# Altium footprint library ISE_MCS_SDM_E1_20MAY.PcbLib: 27 footprints (part 1 of 2)
Each footprint in its own frame and in the unit in brackets; x right, y up, seen from the top. Pads: shape width x height; smd on the part's side, far side on the other; paste and mask are expansions set on the pad; w line width, h text height; cw(c..) or ccw(c..) is an arc to the next point about the centre after c.
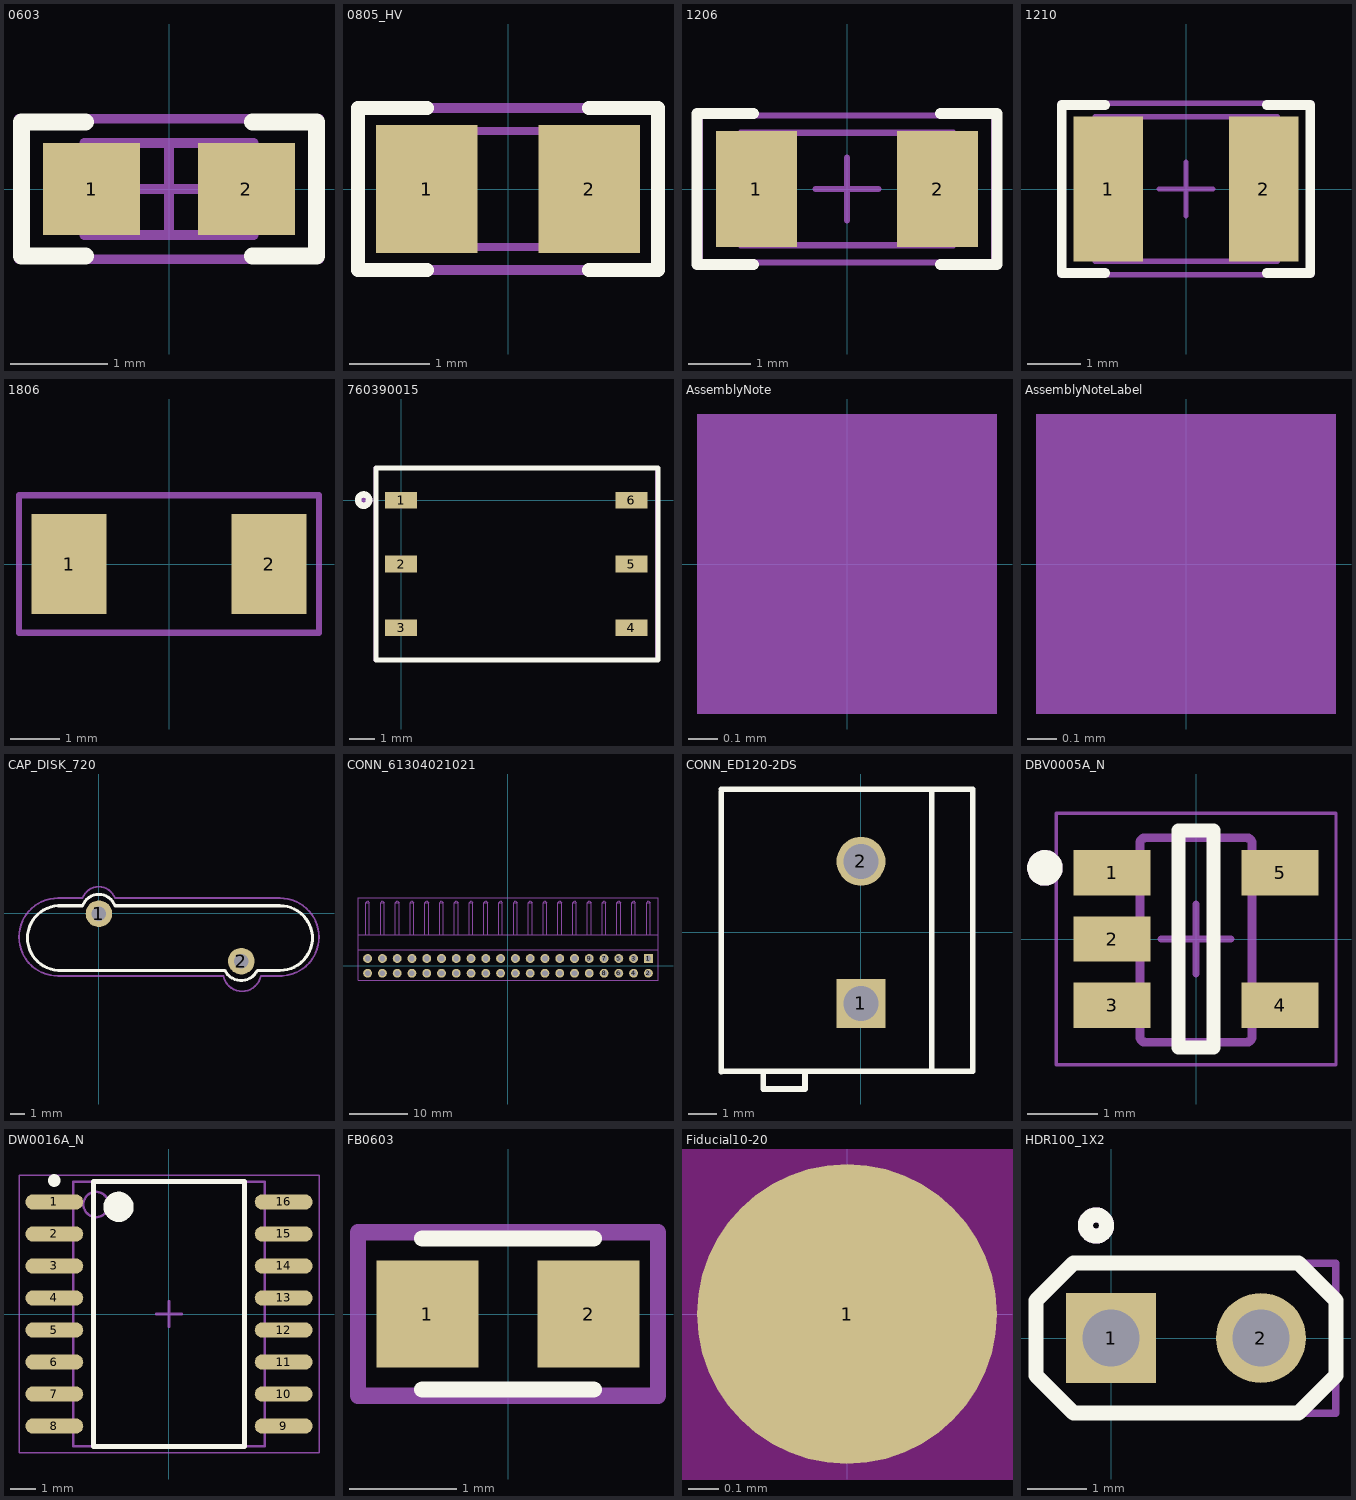
[diagram p0: the footprints below, top view; thin cyan lines are the x and y axes]

## 0603 [mm] "0603 from SM-752 data"
height 0.85
pads (2):
  rect 1x0.95 smd: 1(-0.8,0) 2(0.8,0)
Top Overlay:
  lines w0.178: -0.864,-0.691 -1.524,-0.691 -1.524,0.693 -0.864,0.693 ; 0.864,-0.691 1.524,-0.691 1.524,0.693 0.864,0.693
Mechanical 5:
  lines w0.1: -1.55,-0.725 -1.55,0.725 1.55,0.725 1.55,-0.725 -1.55,-0.725
  text ".Designator" at -1.397,-0.381 h0.76
Mechanical 13:
  lines w0.1: -0.55,-0.475 -0.55,0.475 ; 0.55,-0.475 0.55,0.475 ; -0.875,-0.475 0.875,-0.475 0.875,0.475 -0.875,0.475 -0.875,-0.475
Mechanical 15:
  lines w0.1: -0.475,0 0.475,0 ; 0,-0.475 0,0.475 ; -1.55,-0.725 1.55,-0.725 1.55,0.725 -1.55,0.725 -1.55,-0.725
3D body: height 0.85, standoff 0, extent -0.874,-0.474 -0.551,0.474
3D body: height 0.85, standoff 0, extent -0.549,-0.474 0.549,0.474
3D body: height 0.85, standoff 0, extent 0.551,-0.474 0.874,0.474

## 0805_HV [mil] "0805 with 30mil clearance between pads"
height 43.31
pads (2):
  rect 50x63 smd: 1(-40,0) 2(40,0)
Top Overlay:
  lines w7: -40,-40 -74,-40 -74,0 -74,40 -40,40 ; 40,-40 74,-40 74,0 74,40 40,40
Mechanical 5:
  lines w5: -74,-40 -74,40 74,40 74,-40 -74,-40
  text ".Designator" at -64,-17 h35
Mechanical 13:
  lines w3.94: -25.59,-28.54 -25.59,28.54 ; 25.59,-28.54 25.59,28.54 ; -43.31,-28.54 43.31,-28.54 43.31,28.54 -43.31,28.54 -43.31,-28.54
3D body: height 43.31, standoff 0, extent -43.29,-28.52 -25.61,28.52
3D body: height 43.31, standoff 0, extent -25.57,-28.52 25.57,28.52
3D body: height 43.31, standoff 0, extent 25.61,-28.52 43.29,28.52

## 1206 [mm] "1206 from SM-752 data"
height 1.35
pads (2):
  rect 1.3x1.85 smd: 1(-1.45,0) 2(1.45,0)
Top Overlay:
  lines w0.178: -1.5,-1.21 -2.4,-1.21 -2.4,1.21 -1.5,1.21 ; 1.5,-1.21 2.4,-1.21 2.4,1.21 1.5,1.21
Mechanical 5:
  lines w0.1: -1.7,-0.9 1.7,-0.9 1.7,0.9 -1.7,0.9 -1.7,-0.9
  text ".Designator" at -1.475,-0.4 h0.81
Mechanical 13:
  lines w0.1: -1.2,-0.9 -1.2,0.9 ; 1.2,-0.9 1.2,0.9 ; -1.7,-0.9 1.7,-0.9 1.7,0.9 -1.7,0.9 -1.7,-0.9
Mechanical 15:
  lines w0.1: -0.5,0 0.5,0 ; 0,-0.5 0,0.5 ; -2.35,-1.175 2.35,-1.175 2.35,1.175 -2.35,1.175 -2.35,-1.175
3D body: height 1.35, standoff 0, extent -1.699,-0.899 -1.201,0.899
3D body: height 1.35, standoff 0, extent -1.199,-0.899 1.199,0.899
3D body: height 1.35, standoff 0, extent 1.201,-0.899 1.699,0.899

## 1210 [mm] "1210 from SM-752 data"
height 1.35
pads (2):
  rect 1.3x2.7 smd: 1(-1.45,0) 2(1.45,0)
Top Overlay:
  lines w0.178: -1.511,-1.568 -2.316,-1.568 -2.316,1.568 -1.511,1.568 ; 1.511,-1.568 2.316,-1.568 2.316,1.568 1.511,1.568
Mechanical 5:
  lines w0.1: -1.7,-1.35 1.7,-1.35 1.7,1.35 -1.7,1.35 -1.7,-1.35
  text ".Designator" at -1.4,-0.375 h0.76
Mechanical 13:
  lines w0.1: -1.2,-1.35 -1.2,1.35 ; 1.2,-1.35 1.2,1.35 ; -1.7,-1.35 -1.7,1.35 1.7,1.35 1.7,-1.35 -1.7,-1.35
Mechanical 15:
  lines w0.1: -0.5,0 0.5,0 ; 0,-0.5 0,0.5 ; -2.35,-1.6 -2.35,1.6 2.35,1.6 2.35,-1.6 -2.35,-1.6
3D body: height 1.35, standoff 0, extent -1.699,-1.349 -1.201,1.349
3D body: height 1.35, standoff 0, extent -1.199,-1.349 1.199,1.349
3D body: height 1.35, standoff 0, extent 1.201,-1.349 1.699,1.349

## 1806 [mil]
pads (2):
  rect 60x80 smd mask+2: 1(-80,0) 2(80,0)
Mechanical 5:
  lines w5: -120,-55 120,-55 120,55 -120,55 -120,-55
  text ".Designator" at -73,-20 h40

## 760390015 [mm]
pads (6):
  rect 1.27x0.66 smd: 1(0,0) 2(0,-2.54) 3(0,-5.08) 4(9.14,-5.08) 5(9.14,-2.54) 6(9.14,0)
Top Overlay:
  circle w0.254: c-1.494,0 r0.224
  lines w0.2: -1,-6.35 10.2,-6.35 10.2,1.27 -1,1.27 -1,-6.35
Mechanical 5:
  circle w0.254: c-1.397,0 r0.127
  lines w0.152: -1.016,-6.35 -1.016,1.27 10.16,1.27 10.16,-6.35 -1.016,-6.35
  text ".designator" at 1.397,-3.429 h1.52
3D body: height 4.2, standoff 0.2, extent -1,-6.4 10.2,1.2

## AssemblyNote [mil] "Assembly Note"
Mechanical 5:
  rectangle: -20,-20 20,20
  text ".Comment" at 45,-20 h40
  text ".Designator" at -174.37,-23.77 h40

## AssemblyNoteLabel [mil] "Assembly Note for PCB Labels"
Mechanical 5:
  rectangle: -20,-20 20,20
  text "Install label in silkscreened box after final wash.  Text shall be 8 pt font.  Text shall be per the Label Table in the PDF schematic." at 45,-20 h40
  text ".Designator" at -189.37,-24.77 h40

## CAP_DISK_720 [mil]
pads (2):
  round 70 hole 38: 1(0,-1) 2(375,-126)
Top Overlay:
  lines w8: -98,-150 332,-150 ccw(c374.5,-130) 417,-150 477,-150 ccw(c477,-65) 477,20 42,20 ; -98,20 -43,20 ; -97.95,-150 cw(c-103,-65) -97.95,20 ; -43.01,19.97 cw(c-0.5,5) 42.01,19.97
Mechanical 5:
  lines w5: -43.01,39.97 cw(c-0.5,25) 42.01,39.97 ; -43,40 -108,40 ccw(c-108,-62.5) -108,-165 327,-165 ; 42,40 477,40 cw(c477,-62.5) 477,-165 ; 327.72,-164.85 ccw(c377,-155) 426.28,-164.85 ; 427,-165 482,-165
  text ".Designator" at 150,-377 h60

## CONN_61304021021 [mil]
pads (40):
  rect 60x60 hole 38: 1(952,50)
  round 60 hole 38: 2(952,-50) 3(852,50) 4(852,-50) 5(752,50) 6(752,-50) 7(652,50) 8(652,-50) 9(552,50) 10(552,-50) 11(452,50) 12(452,-50) 13(352,50) 14(352,-50) 15(252,50) 16(252,-50) 17(152,50) 18(152,-50) 19(52,50) 20(52,-50) 21(-48,50) 22(-48,-50) 23(-148,50) 24(-148,-50) 25(-248,50) 26(-248,-50) 27(-348,50) 28(-348,-50) 29(-448,50) 30(-448,-50) 31(-548,50) 32(-548,-50) 33(-648,50) 34(-648,-50) 35(-748,50) 36(-748,-50) 37(-848,50) 38(-848,-50) 39(-948,50) 40(-948,-50)
Mechanical 5:
  lines w5: -1013,109.5 1017,109.5 ; -1013,209.5 1017,209.5 ; -1013,-95.5 1017,-95.5 1017,459.5 -1013,459.5 -1013,-95.5
  text ".Designator" at -73,-20 h40
Mechanical 16:
  lines w1: -960.5,210 -960.5,427.5 ; -935.5,210 -935.5,427.5 ; -860.5,210 -860.5,427.5 ; -835.5,210 -835.5,427.5 ; -760.5,210 -760.5,427.5 ; -735.5,210 -735.5,427.5 ; -660.5,210 -660.5,427.5 ; -635.5,210 -635.5,427.5 ; -560.5,210 -560.5,427.5 ; -535.5,210 -535.5,427.5 ; -460.5,210 -460.5,427.5 ; -435.5,210 -435.5,427.5 ; -360.5,210 -360.5,427.5 ; -335.5,210 -335.5,427.5 ; -260.5,210 -260.5,427.5 ; -235.5,210 -235.5,427.5 ; -160.5,210 -160.5,427.5 ; -135.5,210 -135.5,427.5 ; -60.5,210 -60.5,427.5 ; -35.5,210 -35.5,427.5 ; 39.5,210 39.5,427.5 ; 64.5,210 64.5,427.5 ; 139.5,210 139.5,427.5 ; 164.5,210 164.5,427.5 ; 239.5,210 239.5,427.5 ; 264.5,210 264.5,427.5 ; 339.5,210 339.5,427.5 ; 364.5,210 364.5,427.5 ; 439.5,210 439.5,427.5 ; 464.5,210 464.5,427.5 ; 539.5,210 539.5,427.5 ; 564.5,210 564.5,427.5 ; 639.5,210 639.5,427.5 ; 664.5,210 664.5,427.5 ; 739.5,210 739.5,427.5 ; 764.5,210 764.5,427.5 ; 839.5,210 839.5,427.5 ; 864.5,210 864.5,427.5 ; 939.5,210 939.5,427.5 ; 964.5,210 964.5,427.5 ; -960.5,427.5 -948,440 -935.5,427.5 ; -960.5,427.5 -935.5,427.5 ; -860.5,427.5 -835.5,427.5 ; -860.5,427.5 -848,440 -835.5,427.5 ; -760.5,427.5 -748,440 -735.5,427.5 ; -760.5,427.5 -735.5,427.5 ; -660.5,427.5 -648,440 -635.5,427.5 ; -660.5,427.5 -635.5,427.5 ; -560.5,427.5 -548,440 -535.5,427.5 ; -560.5,427.5 -535.5,427.5 ; -460.5,427.5 -435.5,427.5 ; -460.5,427.5 -448,440 -435.5,427.5 ; -360.5,427.5 -348,440 -335.5,427.5 ; -360.5,427.5 -335.5,427.5 ; -260.5,427.5 -248,440 -235.5,427.5 ; -260.5,427.5 -235.5,427.5 ; -160.5,427.5 -148,440 -135.5,427.5 ; -160.5,427.5 -135.5,427.5 ; -60.5,427.5 -48,440 -35.5,427.5 ; -60.5,427.5 -35.5,427.5 ; 39.5,427.5 64.5,427.5 ; 39.5,427.5 52,440 64.5,427.5 ; 139.5,427.5 164.5,427.5 ; 139.5,427.5 152,440 164.5,427.5 ; 239.5,427.5 264.5,427.5 ; 239.5,427.5 252,440 264.5,427.5 ; 339.5,427.5 352,440 364.5,427.5 ; 339.5,427.5 364.5,427.5 ; 439.5,427.5 452,440 464.5,427.5 ; 439.5,427.5 464.5,427.5 ; 539.5,427.5 552,440 564.5,427.5 ; 539.5,427.5 564.5,427.5 ; 639.5,427.5 652,440 664.5,427.5 ; 639.5,427.5 664.5,427.5 ; 739.5,427.5 752,440 764.5,427.5 ; 739.5,427.5 764.5,427.5 ; 839.5,427.5 852,440 864.5,427.5 ; 839.5,427.5 864.5,427.5 ; 939.5,427.5 952,440 964.5,427.5 ; 939.5,427.5 964.5,427.5

## CONN_ED120-2DS [mm] "ONSHORE"
height 13
pads (2):
  rect 1.75x1.75 hole 1.25: 1(0,-2.54)
  round 1.75 hole 1.25: 2(0,2.54)
Top Overlay:
  lines w0.2: -5,-4.985 -5,5.015 ; -5,-4.96 4,-4.96 ; -5,5.115 4,5.115 4,-4.885 ; -3.5,-4.96 -3.5,-5.6 -2,-5.6 -2,-4.96 ; 2.525,-4.95 2.525,5.05
Mechanical 5:
  lines w0.1: -5,-4.96 4,-4.96 ; -5,-4.885 -5,5.115 4,5.115 4,-4.885 ; -3.5,-4.96 -3.5,-5.6 -2,-5.6 -2,-4.96 ; 2.525,-4.875 2.525,5.125
  text ".Designator" at -2.75,-0.4 h1.02
3D body: height 13, standoff 0, extent -5,-4.985 4,5.115
3D body: height 13.1, standoff -2.5, extent -0.496,-3.039 0.5,-2.041
3D body: height 13.1, standoff -2.5, extent -0.496,2.041 0.5,3.039
3D body: height 5.7, standoff 4.3, extent -0.85,1.846 4.15,3.24
3D body: height 5.7, standoff 4.3, extent -0.875,-3.204 4.125,-1.81
3D body: height 13, standoff 0, extent -3.5,-5.6 -2,-4.925

## DBV0005A_N [mm] "SOT23, 5-Leads, Body 2.9x1.6mm, Pitch 0.95mm, Lead Span 2.8mm, IPC Medium Density"
height 1.45
pads (5):
  rect 1.1x0.65 smd: 1(-1.2,0.95) 2(-1.2,0) 3(-1.2,-0.95) 4(1.2,-0.95) 5(1.2,0.95)
Top Overlay:
  circle w0.254: c-2.159,1.016 r0.127
  lines w0.2: -0.25,-1.55 0.25,-1.55 0.25,1.55 -0.25,1.55 -0.25,-1.55
Mechanical 5:
  circle w0.254: c-2.159,1.016 r0.127
  lines w0.127: -0.801,1.371 cw(c-0.725,1.37) -0.725,1.446 ; -0.801,1.37 -0.801,-1.399 -0.801,-1.4 ccw(c-0.725,-1.399) -0.725,-1.475 ; -0.801,1.37 -0.801,1.371 ; -0.725,-1.475 -0.725,-1.475 ; -0.725,-1.475 0.723,-1.475 0.724,-1.475 ccw(c0.723,-1.399) 0.799,-1.4 0.799,-1.399 0.799,1.37 ; -0.725,1.446 0.723,1.446 0.724,1.446 cw(c0.723,1.37) 0.799,1.371 ; -0.725,1.446 -0.725,1.446 ; 0.799,1.37 0.799,1.371 ; -1.423,-1.167 -1.199,-1.167 -1.105,-1.167 -1.088,-1.167 -0.835,-1.167 -0.801,-1.167 -0.801,-0.767 -0.835,-0.767 -1.088,-0.767 -1.105,-0.767 -1.199,-0.767 -1.423,-0.767 -1.423,-1.167 ; -1.423,-0.215 -1.199,-0.215 -1.105,-0.215 -1.088,-0.215 -0.835,-0.215 -0.801,-0.215 -0.801,0.186 -0.835,0.186 -1.088,0.186 -1.105,0.186 -1.199,0.186 -1.423,0.186 -1.423,-0.215 ; -1.423,0.738 -1.199,0.738 -1.105,0.738 -1.088,0.738 -0.835,0.738 -0.801,0.738 -0.801,1.138 -0.835,1.138 -1.088,1.138 -1.105,1.138 -1.199,1.138 -1.423,1.138 -1.423,0.738 ; 0.799,-1.167 0.799,-0.767 0.834,-0.767 1.087,-0.767 1.103,-0.767 1.198,-0.767 1.422,-0.767 1.422,-1.167 1.198,-1.167 1.103,-1.167 1.087,-1.167 0.834,-1.167 0.799,-1.167 ; 0.799,0.738 0.799,1.138 0.834,1.138 1.087,1.138 1.103,1.138 1.198,1.138 1.422,1.138 1.422,0.738 1.198,0.738 1.103,0.738 1.087,0.738 0.834,0.738 0.799,0.738
  text ".Designator" at -0.25,0.95 h0.51
Mechanical 15:
  lines w0.05: -2,-1.8 -2,1.8 2,1.8 2,-1.8 -2,-1.8
  lines w0.1: -0.5,0 0.5,0 ; 0,-0.5 0,0.5
3D body: height 1.08, standoff -0.01, extent -1.422,-1.461 1.422,1.46

## DW0016A_N [mm] "SOIC, 16-Leads, Body 10.3x7.5mm, Pitch 1.27mm, IPC Medium Density"
height 2.64
pads (16):
  oval 2.3x0.6 smd: 1(-4.55,4.445) 2(-4.55,3.175) 3(-4.55,1.905) 4(-4.55,0.635) 5(-4.55,-0.635) 6(-4.55,-1.905) 7(-4.55,-3.175) 8(-4.55,-4.445) 9(4.55,-4.445) 10(4.55,-3.175) 11(4.55,-1.905) 12(4.55,-0.635) 13(4.55,0.635) 14(4.55,1.905) 15(4.55,3.175) 16(4.55,4.445)
Top Overlay:
  circle w0.25: c-4.55,5.295 r0.125
  circle w0.6: c-2,4.25 r0.3
  lines w0.2: -3,-5.25 -3,5.25 3,5.25 3,-5.25 -3,-5.25
Mechanical 5:
  circle w0.1: c-2.895,4.345 r0.5
  lines w0.1: -3.795,-5.245 -3.795,5.245 3.795,5.245 3.795,-5.245 -3.795,-5.245
  text ".Designator" at -1.854,-0.508 h1.02
Mechanical 15:
  lines w0.05: -5.95,-5.5 -5.95,5.5 5.95,5.5 5.95,-5.5 -5.95,-5.5
  lines w0.1: -0.5,0 0.5,0 ; 0,-0.5 0,0.5
3D body: height 2.64, standoff 0.1, extent -3.795,-5.245 3.795,5.245

## FB0603 [mm]
height 0.95
pads (2):
  rect 0.95x1 smd: 1(-0.75,0) 2(0.75,0)
Top Overlay:
  lines w0.152: -0.8,-0.703 0.8,-0.703 ; -0.8,0.703 0.8,0.703
Mechanical 5:
  lines w0.152: -1.397,-0.762 1.397,-0.762 1.397,0.127 1.397,0.762 -1.397,0.762 -1.397,-0.762
  text ".designator" at -1.143,-0.381 h1.52
Mechanical 15:
  lines w0.025: -0.8,-0.4 -0.8,0.4 ; 0.8,-0.4 0.8,0.4
  lines w0.1: -0.8,-0.4 -0.8,0.4

## Fiducial10-20 [mm]
pads (1):
  round 1 smd paste-0.5 mask+0.5: 1(0,0)
Top Layer keep-out:
  circle w1.178: c0,0 r0.5

## HDR100_1X2 [mil]
pads (2):
  rect 60x60 hole 38: 1(0,0)
  round 60 hole 38: 2(100,0)
Top Overlay:
  circle w10: c-10,75 r7.07
  lines w10: -50,-25 -25,-50 125,-50 150,-25 150,25 125,50 -25,50 -50,25 -50,-25
Mechanical 5:
  circle w10: c-10,75 r7.07
  lines w5: -50,-25 -50,25 -25,50 150,50 150,-50 -25,-50 -50,-25
  text ".Designator" at -29,-12 h40